# EAGLE library part LTC4359* (library analog-devices-custom)
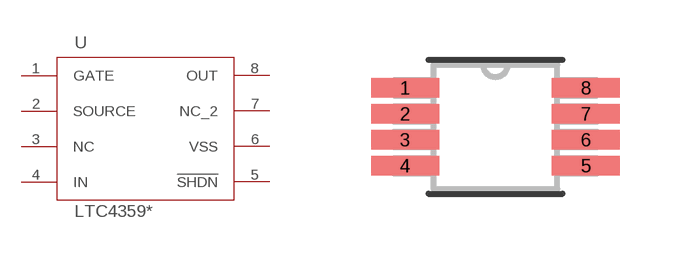
[diagram p0: symbol with the pads of MSOP-8_MS-M; footprint MSOP-8_MS-M]

Designator prefix U

## LTC4359CMS8 (MFG: Analog Devices; MPN: LTC4359CMS8#PBF; OPERATING_TEMP: 0 to +70C; PACKAGE: 8-MSOP; VALUE: LTC4359), LTC4359HMS8 (DIGIKEY_PN: 505-LTC4359HMS8#TRPBFDKR-ND; MFG: Analog Devices; MOUSER_PN: 584-LTC4359HMS8#PBF; MPN: LTC4359HMS8#PBF; OPERATING_TEMP: -40 to +125C; PACKAGE: 8-MSOP; VALUE: LTC4359), LTC4359IMS8 (MFG: Analog Devices; MPN: LTC4359IMS8#PBF; OPERATING_TEMP: -40 to +85C; PACKAGE: 8-MSOP; VALUE: LTC4359)  [MSOP-8_MS-M]
1  GATE  out
2  SOURCE  pas
3  NC  nc
4  IN  pas
5  !SHDN  in
6  VSS  sup
7  NC_2  nc
8  OUT  pas

## Footprint MSOP-8_MS-M (pad centres in mm)
smd 1.702 x 0.483: 1 -2.261,0.975; 2 -2.261,0.325; 3 -2.261,-0.325; 4 -2.261,-0.975; 5 2.261,-0.975; 6 2.261,-0.325; 7 2.261,0.325; 8 2.261,0.975